# Altium footprint library MitchSwitch_Bypass.PCBLIB: 270 footprints (part 14 of 17)
Each footprint in its own frame and in the unit in brackets; x right, y up, seen from the top. Pads: shape width x height; smd on the part's side, far side on the other; paste and mask are expansions set on the pad; w line width, h text height; cw(c..) or ccw(c..) is an arc to the next point about the centre after c.
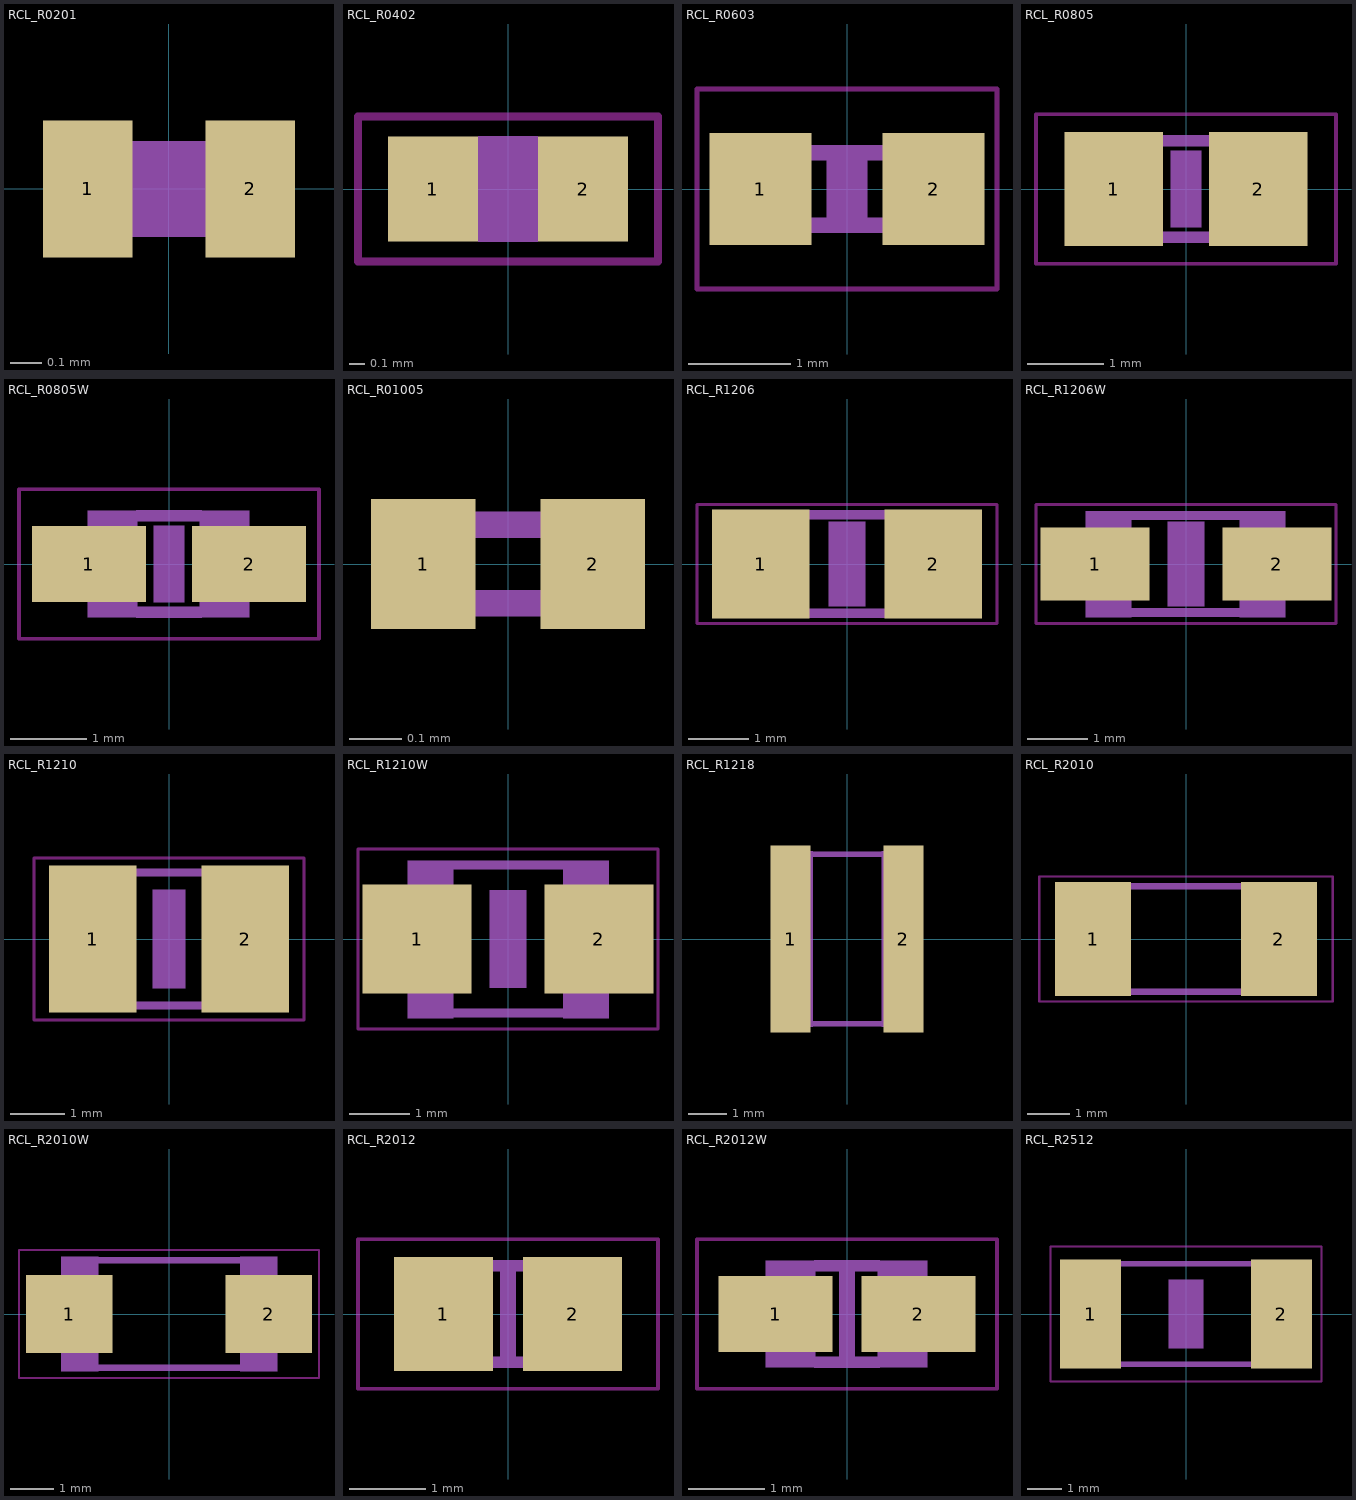
[diagram p13: the footprints below, top view; thin cyan lines are the x and y axes]

## RCL_R0201 [mm]
pads (2):
  rect 0.28x0.43 smd: 1(-0.255,0) 2(0.255,0)
Mechanical 3:
  region: -0.3,-0.15 -0.3,0.15 -0.15,0.15 -0.15,-0.15
  region: 0.15,-0.15 0.15,0.15 0.3,0.15 0.3,-0.15
Mechanical 7:
  region: -0.15,-0.15 -0.15,0.15 0.15,0.15 0.15,-0.15

## RCL_R0402 [mil]
pads (2):
  rect 23.62x27.56 smd: 1(-19.69,0) 2(19.69,0)
Top Layer keep-out:
  lines w2: -39.37,-19.02 39.37,-19.02 39.37,19.02 -39.37,19.02 -39.37,-19.02
Mechanical 3:
  region: -21.81,-12 -21.81,11.62 -10,11.62 -10,-12
  region: 10.19,-12 10.19,11.62 22,11.62 22,-12
  lines w6: -9.65,-8.82 9.65,-8.82 ; -9.65,8.82 9.65,8.82
Top Glue Points:
  region: -7.87,-13.78 -7.87,13.78 7.87,13.78 7.87,-13.78

## RCL_R0603 [mm]
pads (2):
  rect 1x1.1 smd: 1(-0.85,0) 2(0.85,0)
Top Layer keep-out:
  lines w0.051: -1.473,-0.983 1.473,-0.983 1.473,0.983 -1.473,0.983 -1.473,-0.983
Mechanical 3:
  region: 0.432,-0.432 0.432,0.432 0.838,0.432 0.838,-0.432
  region: -0.838,-0.432 -0.838,0.432 -0.432,0.432 -0.432,-0.432
  lines w0.152: -0.432,-0.356 0.432,-0.356 ; -0.432,0.356 0.432,0.356
Top Glue Points:
  region: -0.2,-0.4 -0.2,0.4 0.2,0.4 0.2,-0.4

## RCL_R0805 [mil]
pads (2):
  rect 51.18x59.06 smd: 1(-37.4,0) 2(37.4,0)
Top Layer keep-out:
  lines w2: -77.68,-38.7 77.68,-38.7 77.68,38.7 -77.68,38.7 -77.68,-38.7
Mechanical 3:
  region: 16,-27.5 16,27.62 41.59,27.62 41.59,-27.5
  region: -42,-27.5 -42,27.62 -16.41,27.62 -16.41,-27.5
  lines w6: -16.14,-25 16.14,-25 ; -16.14,25 16.14,25
Top Glue Points:
  region: -7.87,-19.69 -7.87,19.69 7.87,19.69 7.87,-19.69

## RCL_R0805W [mm]
pads (2):
  rect 1.5x1 smd: 1(-1.053,0) 2(1.053,0)
Top Layer keep-out:
  lines w0.051: -1.973,-0.983 1.973,-0.983 1.973,0.983 -1.973,0.983 -1.973,-0.983
Mechanical 3:
  region: 0.406,-0.699 0.406,0.702 1.056,0.702 1.056,-0.699
  region: -1.067,-0.699 -1.067,0.702 -0.417,0.702 -0.417,-0.699
  lines w0.152: -0.41,-0.635 0.41,-0.635 ; -0.41,0.635 0.41,0.635
Top Glue Points:
  region: -0.2,-0.5 -0.2,0.5 0.2,0.5 0.2,-0.5

## RCL_R01005 [mil]
pads (2):
  rect 7.87x9.84 smd: 1(-6.4,0) 2(6.4,0)
Mechanical 3:
  region: -7.87,-3.94 -7.87,3.94 -2.95,3.94 -2.95,-3.94
  region: 2.95,-3.94 2.95,3.94 7.87,3.94 7.87,-3.94
  region: -5.91,1.97 -5.91,3.94 5.91,3.94 5.91,1.97
  region: -5.91,-3.94 -5.91,-1.97 5.91,-1.97 5.91,-3.94

## RCL_R1206 [mil]
pads (2):
  rect 62.99x70.98 smd: 1(-55.98,0) 2(55.98,0)
Top Layer keep-out:
  lines w2: -97.36,-38.7 97.36,-38.7 97.36,38.7 -97.36,38.7 -97.36,-38.7
Mechanical 3:
  region: -66.5,-34.5 -66.5,34.5 -37.5,34.5 -37.5,-34.5
  region: 37.5,-34.5 37.5,34.5 66.5,34.5 66.5,-34.5
  lines w6: -38,-32 37.5,-32 ; -38,32 37.5,32
Top Glue Points:
  region: -11.81,-27.56 -11.81,27.56 11.81,27.56 11.81,-27.56

## RCL_R1206W [mil]
pads (2):
  rect 70.87x47.24 smd: 1(-59.02,0) 2(59.02,0)
Top Layer keep-out:
  lines w2: -97.36,-38.7 97.36,-38.7 97.36,38.7 -97.36,38.7 -97.36,-38.7
Mechanical 3:
  region: -65,-34.5 -65,34.4 -35.47,34.4 -35.47,-34.5
  region: 35,-34.5 35,34.4 64.53,34.4 64.53,-34.5
  lines w6: -35.94,-31.5 34.96,-31.5 ; -35.94,31.5 34.96,31.5
Top Glue Points:
  region: -11.81,-27.56 -11.81,27.56 11.81,27.56 11.81,-27.56

## RCL_R1210 [mil]
pads (2):
  rect 62.99x106.3 smd: 1(-55.12,0) 2(55.12,0)
Top Layer keep-out:
  lines w2: -97.36,-58.39 97.36,-58.39 97.36,58.39 -97.36,58.39 -97.36,-58.39
Mechanical 3:
  region: -65,-51.5 -65,50.86 -35.47,50.86 -35.47,-51.5
  region: 36,-51.5 36,50.86 65.53,50.86 65.53,-51.5
  lines w6: -35.94,-47.99 36.97,-47.99 ; -35.94,47.99 36.97,47.99
Top Glue Points:
  region: -11.81,-35.43 -11.81,35.43 11.81,35.43 11.81,-35.43

## RCL_R1210W [mil]
pads (2):
  rect 70.87x70.87 smd: 1(-59.02,0) 2(59.02,0)
Top Layer keep-out:
  lines w2: -97.36,-58.39 97.36,-58.39 97.36,58.39 -97.36,58.39 -97.36,-58.39
Mechanical 3:
  region: -65,-51.5 -65,50.86 -35.47,50.86 -35.47,-51.5
  region: 36,-51.5 36,50.86 65.53,50.86 65.53,-51.5
  lines w6: -35.94,-47.99 36.97,-47.99 ; -35.94,47.99 36.97,47.99
Top Glue Points:
  region: -11.81,-31.5 -11.81,31.5 11.81,31.5 11.81,-31.5

## RCL_R1218 [mil]
pads (2):
  rect 41.34x192.91 smd: 1(-58.07,0) 2(58.07,0)
Mechanical 3:
  region: -65,-90.55 -65,90.55 -35.47,90.55 -35.47,-90.55
  region: 36,-90.55 36,90.55 65.53,90.55 65.53,-90.55
  lines w6: -36.97,87.36 35.94,87.36 ; -35.94,-87.36 36.97,-87.36

## RCL_R2010 [mil]
pads (2):
  rect 70.87x106.3 smd: 1(-86.61,0) 2(86.61,0)
Top Layer keep-out:
  lines w2: -136.73,-58.39 136.73,-58.39 136.73,58.39 -136.73,58.39 -136.73,-58.39
Mechanical 3:
  region: -98,-52 -98,52.33 -64.54,52.33 -64.54,-52
  region: 65,-52 65,52.33 98.46,52.33 98.46,-52
  lines w6: -65.43,49.02 65.43,49.02 ; -64.45,-49.02 66.42,-49.02

## RCL_R2010W [mm]
pads (2):
  rect 2x1.8 smd: 1(-2.311,0) 2(2.311,0)
Top Layer keep-out:
  lines w0.051: -3.473,-1.483 3.473,-1.483 3.473,1.483 -3.473,1.483 -3.473,-1.483
Mechanical 3:
  region: -2.489,-1.321 -2.489,1.329 -1.639,1.329 -1.639,-1.321
  region: 1.651,-1.321 1.651,1.329 2.501,1.329 2.501,-1.321
  lines w0.152: -1.662,1.245 1.662,1.245 ; -1.637,-1.245 1.687,-1.245

## RCL_R2012 [mil]
pads (2):
  rect 51.18x59.06 smd: 1(-33.46,0) 2(33.46,0)
Top Layer keep-out:
  lines w2: -77.68,-38.7 77.68,-38.7 77.68,38.7 -77.68,38.7 -77.68,-38.7
Mechanical 3:
  region: 16,-27.5 16,27.62 41.59,27.62 41.59,-27.5
  region: -42,-27.5 -42,27.62 -16.41,27.62 -16.41,-27.5
  lines w6: -16.14,-25 16.14,-25 ; -16.14,25 16.14,25
Top Glue Points:
  region: -3.94,-23.62 -3.94,23.62 3.94,23.62 3.94,-23.62

## RCL_R2012W [mm]
pads (2):
  rect 1.5x1 smd: 1(-0.94,0) 2(0.94,0)
Top Layer keep-out:
  lines w0.051: -1.973,-0.983 1.973,-0.983 1.973,0.983 -1.973,0.983 -1.973,-0.983
Mechanical 3:
  region: 0.406,-0.699 0.406,0.702 1.056,0.702 1.056,-0.699
  region: -1.067,-0.699 -1.067,0.702 -0.417,0.702 -0.417,-0.699
  lines w0.152: -0.41,-0.635 0.41,-0.635 ; -0.41,0.635 0.41,0.635
Top Glue Points:
  region: -0.1,-0.6 -0.1,0.6 0.1,0.6 0.1,-0.6

## RCL_R2512 [mil]
pads (2):
  rect 70.87x125.98 smd: 1(-110.24,0) 2(110.24,0)
Top Layer keep-out:
  lines w2: -156.42,-78.07 156.42,-78.07 156.42,78.07 -156.42,78.07 -156.42,-78.07
Mechanical 3:
  region: -126,-61 -126,61.05 -92.54,61.05 -92.54,-61
  region: 93,-61 93,61.05 126.46,61.05 126.46,-61
  lines w6: -92.99,-57.99 93.98,-57.99 ; -92.99,57.99 93.98,57.99
Top Glue Points:
  region: -19.69,-39.37 -19.69,39.37 19.69,39.37 19.69,-39.37